# EAGLE library part TLC7528 (library ti-dac-jlb)
8-Bit Buffered Multiplying DAC Source: http://www.analog.com/UploadedFiles/Data_Sheets/888358036ad7524.pdf
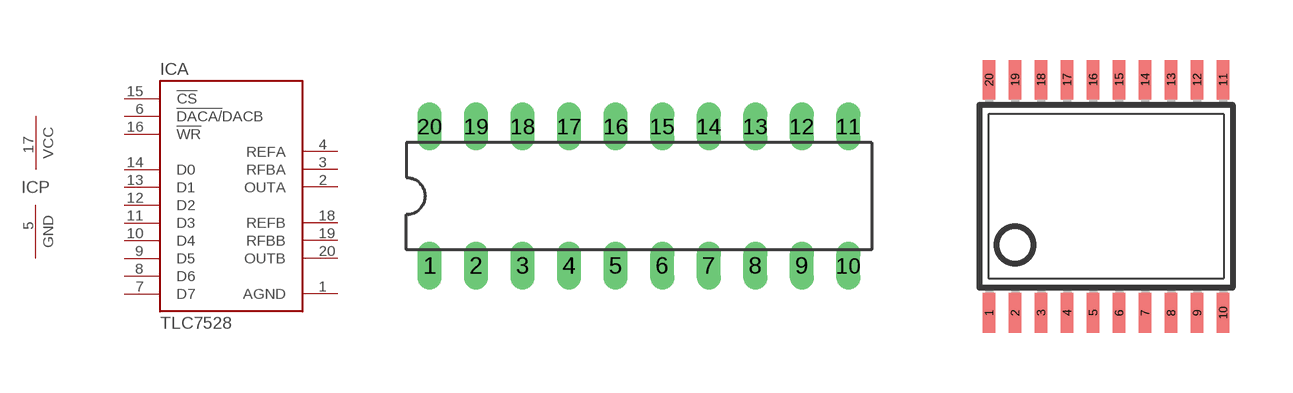
[diagram p0: symbol with the pads of DIL20; footprints DIL20, TSSOP20]

Designator prefix IC; gates A=TLC7528 P=PWRGND

## TLC7528N  [DIL20]
1  A:AGND  pas
2  A:OUTA  pas
3  A:RFBA  pas
4  A:REFA  in
5  P:GND  pwr
6  A:!DACA/!DACB  in
7  A:D7  in
8  A:D6  in
9  A:D5  in
10  A:D4  in
11  A:D3  in
12  A:D2  in
13  A:D1  in
14  A:D0  in
15  A:!CS  in
16  A:!WR  in
17  P:VCC  pwr
18  A:REFB  in
19  A:RFBB  pas
20  A:OUTB  pas

## TLC7528PW  [TSSOP20]
Pads as for DIL20

## Footprint DIL20 (pad centres in mm)
Dual In Line Package
drill 0.813 long: 1 -11.43,-3.81; 2 -8.89,-3.81; 3 -6.35,-3.81; 4 -3.81,-3.81; 5 -1.27,-3.81; 6 1.27,-3.81; 7 3.81,-3.81; 8 6.35,-3.81; 9 8.89,-3.81; 10 11.43,-3.81; 11 11.43,3.81; 12 8.89,3.81; 13 6.35,3.81; 14 3.81,3.81; 15 1.27,3.81; 16 -1.27,3.81; 17 -3.81,3.81; 18 -6.35,3.81; 19 -8.89,3.81; 20 -11.43,3.81

## Footprint TSSOP20 (pad centres in mm)
Thin Shrink Small Outline Plastic 20
smd 0.305 x 0.991: 1 -2.925,-2.918; 2 -2.275,-2.918; 3 -1.625,-2.918; 4 -0.975,-2.918; 5 -0.325,-2.918; 6 0.325,-2.918; 7 0.975,-2.918; 8 1.625,-2.918; 9 2.275,-2.918; 10 2.925,-2.918; 11 2.925,2.918; 12 2.275,2.918; 13 1.625,2.918; 14 0.975,2.918; 15 0.325,2.918; 16 -0.325,2.918; 17 -0.975,2.918; 18 -1.625,2.918; 19 -2.275,2.918; 20 -2.925,2.918